# Altium footprint library Protel 99SE BANKS PCB.PCBLIB: 278 footprints (part 1 of 18)
Each footprint in its own frame and in the unit in brackets; x right, y up, seen from the top. Pads: shape width x height; smd on the part's side, far side on the other; paste and mask are expansions set on the pad; w line width, h text height; cw(c..) or ccw(c..) is an arc to the next point about the centre after c.
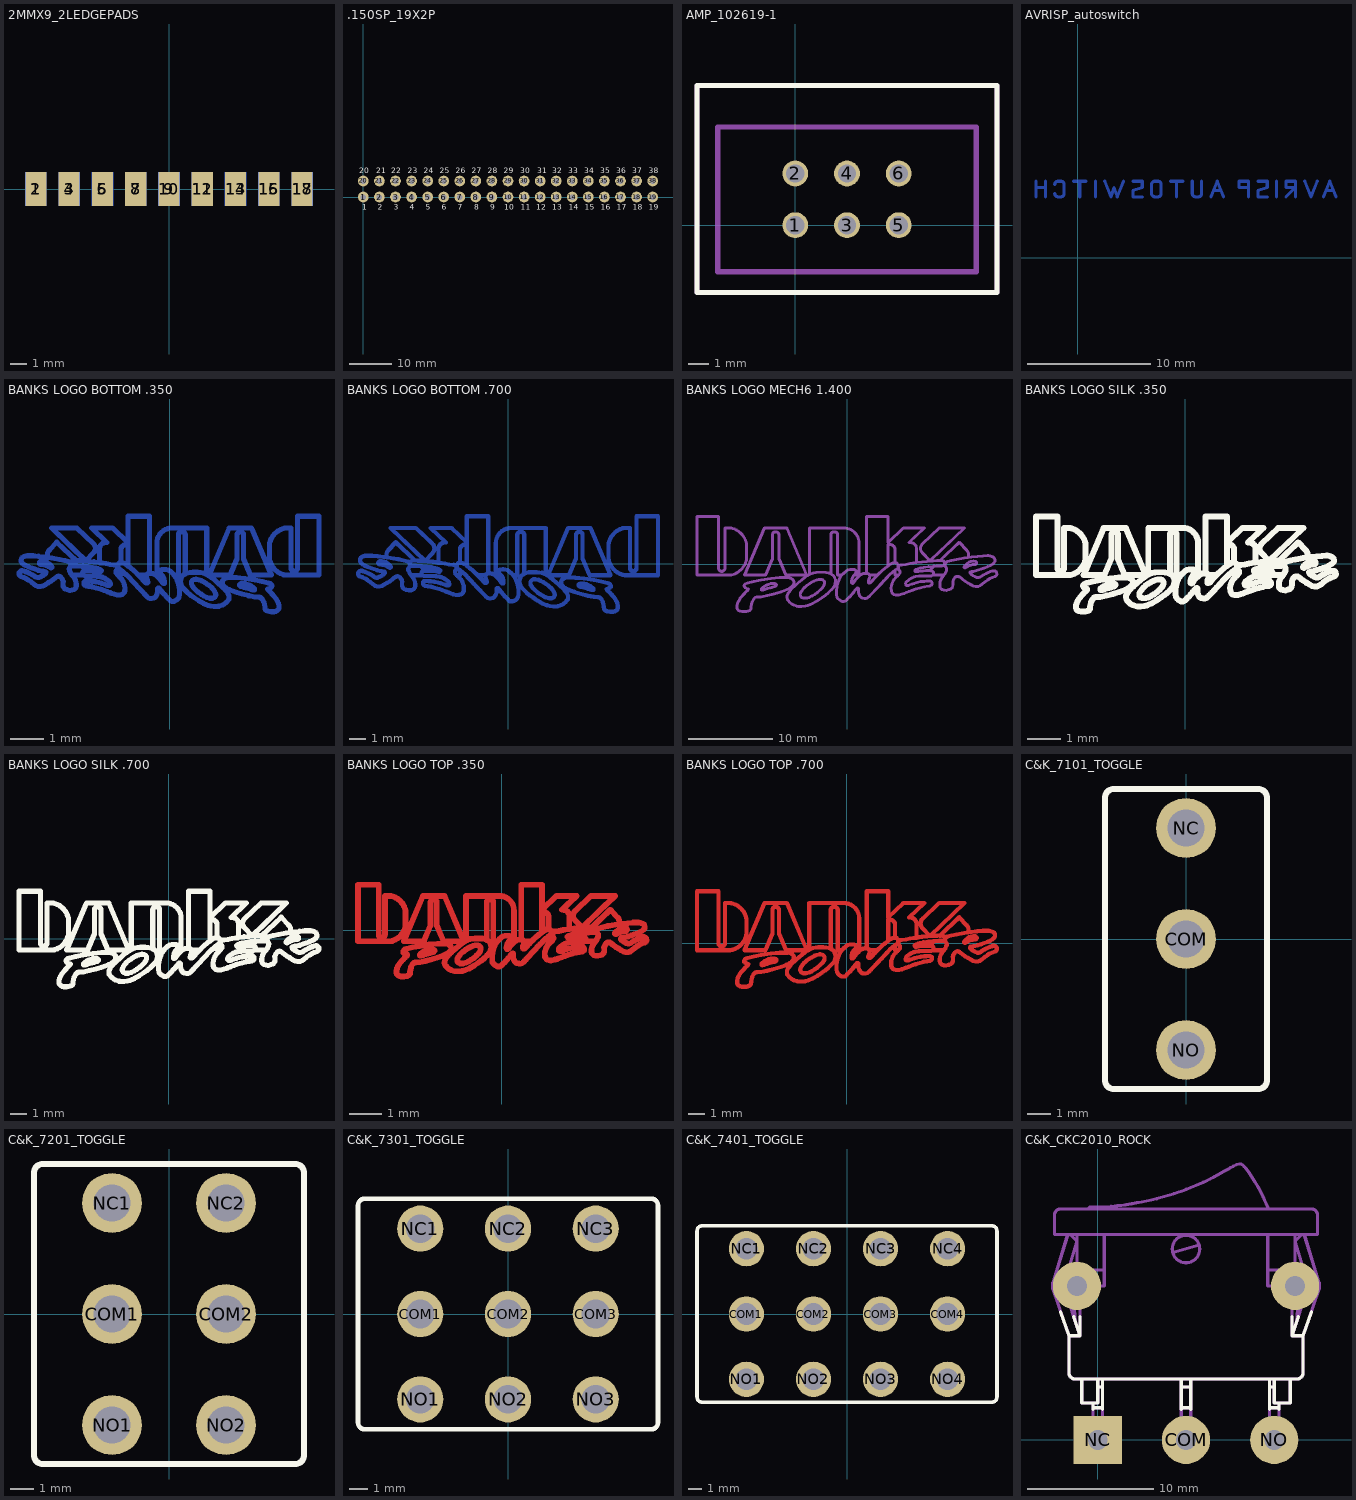
[diagram p0: the footprints below, top view; thin cyan lines are the x and y axes]

## 2MMX9_2LEDGEPADS [mil]
pads (18):
  rect 50x80 smd: 1(-314.96,0) 3(-236.22,0) 5(-157.48,0) 7(-78.74,0) 9(0,0) 11(78.74,0) 13(157.48,0) 15(236.22,0) 17(314.96,0)
  rect 50x80 smd far side: 2(-314.96,0) 4(-236.22,0) 6(-157.48,0) 8(-78.74,0) 10(0,0) 12(78.74,0) 14(157.48,0) 16(236.22,0) 18(314.96,0)

## .150SP_19X2P [mil]
pads (38):
  round 100 hole 52: 1(0,0) 2(150,0) 3(300,0) 4(450,0) 5(600,0) 6(750,0) 7(900,0) 8(1050,0) 9(1200,0) 10(1350,0) 11(1500,0) 12(1650,0) 13(1800,0) 14(1950,0) 15(2100,0) 16(2250,0) 17(2400,0) 18(2550,0) 19(2700,0) 20(0,150) 21(150,150) 22(300,150) 23(450,150) 24(600,150) 25(750,150) 26(900,150) 27(1050,150) 28(1200,150) 29(1350,150) 30(1500,150) 31(1650,150) 32(1800,150) 33(1950,150) 34(2100,150) 35(2250,150) 36(2400,150) 37(2550,150) 38(2700,150)
TopOverlay:
  text "31" at 1622,220 h50
  text "38" at 2662,220 h50
  text "37" at 2512,220 h50
  text "36" at 2362,220 h50
  text "35" at 2212,220 h50
  text "34" at 2062,220 h50
  text "33" at 1912,220 h50
  text "32" at 1762,220 h50
  text "30" at 1462,220 h50
  text "29" at 1312,220 h50
  text "28" at 1162,220 h50
  text "27" at 1012,220 h50
  text "26" at 862,220 h50
  text "25" at 712,220 h50
  text "24" at 562,220 h50
  text "23" at 412,220 h50
  text "22" at 262,220 h50
  text "21" at 122,220 h50
  text "20" at -38,220 h50
  text "14" at 1915,-120 h50
  text "15" at 2065,-120 h50
  text "16" at 2215,-120 h50
  text "17" at 2365,-120 h50
  text "18" at 2515,-120 h50
  text "19" at 2665,-120 h50
  text "13" at 1765,-120 h50
  text "12" at 1615,-120 h50
  text "11" at 1470,-120 h50
  text "10" at 1315,-120 h50
  text "9" at 1183,-120 h50
  text "8" at 1033,-120 h50
  text "7" at 883,-120 h50
  text "6" at 733,-120 h50
  text "5" at 583,-120 h50
  text "4" at 433,-120 h50
  text "3" at 283,-120 h50
  text "2" at 133,-120 h50
  text "1" at -12,-120 h50

## AMP_102619-1 [mil]
height 440.16
pads (6):
  round 50 hole 35: 1(0,0) 2(0,100) 3(100,0) 4(100,100) 5(200,0) 6(200,100)
TopOverlay:
  lines w10: -190,-130 390,-130 390,270 -190,270 -190,-130
Mechanical3:
  lines w10: -190,-130 -180,-130 380,-130 390,-130 390,100 390,270 380,270 200,270 0,270 -180,270 -190,270 -190,-130 ; -150,-90 -150,0 -150,190 350,190 350,0 350,-90 -150,-90

## AVRISP_autoswitch [mil]
BottomLayer:
  circle w10: c-62.91,194.33 r0
  circle w10: c-62.91,194.33 r0
  circle w10: c-42.91,224.33 r0
  circle w10: c237.09,214.33 r0
  circle w10: c247.09,194.33 r0
  circle w10: c247.09,194.33 r0
  circle w10: c267.09,224.33 r0
  circle w10: c397.09,244.33 r0
  lines w10: -132.91,194.33 -132.91,244.33 ; -132.91,224.33 -102.91,224.33 ; -102.91,194.33 -102.91,244.33 ; -72.91,204.33 ccw(c-62.91,204.33) -62.91,194.33 -52.91,194.33 ccw(c-52.91,204.33) -42.91,204.33 -42.91,224.33 -42.91,234.33 ccw(c-52.91,234.33) -52.91,244.33 -62.91,244.33 ccw(c-62.91,234.33) -72.91,234.33 ; -12.91,244.33 27.09,244.33 ; 7.09,194.33 7.09,244.33 ; 57.09,194.33 57.09,244.33 ; 87.09,244.33 107.09,194.33 117.09,224.33 127.09,194.33 147.09,244.33 ; 177.09,244.33 207.09,244.33 207.09,224.33 177.09,214.33 177.09,194.33 207.09,194.33 ; 297.09,244.33 337.09,244.33 ; 317.09,194.33 317.09,244.33 ; 367.09,244.33 367.09,204.33 ccw(c377.09,204.33) 377.09,194.33 387.09,194.33 ccw(c387.09,204.33) 397.09,204.33 397.09,244.33 ; 427.09,194.33 447.09,244.33 467.09,194.33 ; 437.09,214.33 457.09,214.33 ; 547.09,194.33 547.09,244.33 517.09,244.33 517.09,224.33 547.09,224.33 ; 577.09,244.33 607.09,244.33 607.09,224.33 577.09,214.33 577.09,194.33 607.09,194.33 ; 637.09,194.33 637.09,244.33 ; 667.09,194.33 697.09,224.33 667.09,224.33 667.09,244.33 697.09,244.33 697.09,194.33 ; 727.09,244.33 747.09,194.33 767.09,244.33 ; 787.09,194.33 807.09,244.33 827.09,194.33 ; 797.09,214.33 817.09,214.33 ; 237.09,204.33 ccw(c247.09,204.33) 247.09,194.33 257.09,194.33 ccw(c257.09,204.33) 267.09,204.33 267.09,224.33 267.09,234.33 ccw(c257.09,234.33) 257.09,244.33 247.09,244.33 ccw(c247.09,234.33) 237.09,234.33 237.09,214.33 237.09,204.33

## BANKS LOGO BOTTOM .350 [mil]
BottomLayer:
  lines w6: -142.4,7.51 cw(c-135.68,10.84) -141.11,16.01 -132.21,25.35 -109.75,3.94 ; -114.25,-13.14 -101.03,-13.14 ; -102.81,-2.67 -97.37,-7.85 ; -82.24,-9.09 -82.24,-6.37 ; -82.24,1.53 -82.24,17.65 cw(c-74.74,17.65) -74.74,25.15 -73.51,25.15 -91.32,42.12 -66.75,42.12 -48.94,25.15 -48.94,55.81 -23.74,55.81 -23.74,-11.05 ; -60.75,-13.14 -57.04,-13.14 -57.04,-7.44 ; -57.04,1.41 -57.04,16.67 cw(c-51.04,16.67) -51.04,22.67 -48.94,22.67 -48.94,-2.28 ; -36.46,-13.14 -26.94,-13.14 ; -9.12,-13.14 -15.01,-13.14 -15.01,24.11 cw(c2.99,24.11) 2.99,42.11 43.49,42.12 43.49,-12.4 ; 18.29,-11.57 18.29,33.87 ccw(c14.54,33.87) 14.54,37.62 13.94,37.62 ccw(c13.94,33.87) 10.19,33.87 10.19,-13.14 5.25,-13.14 ; 142.28,-13.14 136.4,-13.14 ; -26.94,-13.13 -26.21,-11.95 -24.98,-11.22 -23.35,-11 -21.61,-11 -19.7,-11.39 -17.56,-12.23 -15.99,-13.3 -14.53,-14.82 -12.39,-16.78 -10.93,-18.36 -9.81,-19.98 -8.96,-21.33 -8.29,-22.18 -7.28,-22.96 -6.04,-22.62 -5.88,-21.05 -5.99,-19.93 -6.44,-18.58 -6.66,-17.4 -7,-16.28 -7.62,-15.15 -8.4,-13.92 -9.81,-12.4 -10.76,-11.39 -11.38,-9.82 -11.27,-8.24 -10.37,-6.95 -9.02,-6.45 -6.66,-6.33 -4.08,-6.45 -1.6,-7.06 0.47,-8.47 3.06,-10.83 5.25,-13.13 ; -26.94,-13.13 -27.39,-14.54 -27.17,-16 -26.44,-17.85 -25.93,-19.09 -25.71,-20.49 -25.65,-21.5 -26.1,-22.23 -27.28,-22.34 -28.8,-21.56 -29.86,-20.21 -33.71,-16 -38.04,-11.5 -41.74,-8.02 -45.45,-4.93 -49.16,-2.12 -52.08,0.01 -54.27,1.2 -56.18,1.53 -58.09,1.25 -59.22,0.8 -60.45,-0.55 -60.73,-1.78 -60.73,-3.81 -59.83,-5.55 -57.76,-6.89 -54.05,-9.76 -50.62,-12.74 -47.19,-16.28 -43.99,-19.7 -40.73,-23.36 -36.72,-27.51 -33.63,-30.88 -31.27,-33.35 -29.47,-35.32 -27.78,-37.12 -26.16,-38.69 -24.69,-39.87 -22.84,-40.43 -21.16,-40.38 -18.63,-40.04 -17.34,-39.37 -16.16,-37.96 -15.37,-36.84 -14.7,-35.38 -14.02,-33.07 -13.96,-31.28 -13.96,-28.86 -13.68,-28.13 -13.01,-28.07 -12.17,-28.58 -10.48,-30.6 -8.63,-33.13 -6.16,-35.77 -3.85,-38.52 -1.72,-40.49 -0.26,-42.06 0.47,-42.91 1.43,-43.58 2.89,-43.86 4.86,-43.86 5.92,-43.52 8.23,-42.17 9.91,-40.66 11.09,-38.69 11.54,-36.11 11.48,-30.77 11.26,-27.29 10.36,-23.58 8.84,-18.8 7.5,-16.05 5.25,-13.13 ; 117.08,6.19 ccw(c127.57,6.19) 117.53,3.15 ccw(c140.23,10.02) 133.36,-12.69 ccw(c136.4,-2.64) 136.4,-13.14 ; 117.08,6.19 117.08,22.79 ; 117.08,6.19 117.08,22.79 ; 117.08,22.79 cw(c127.57,22.79) 117.53,25.83 cw(c140.23,18.96) 133.36,41.67 cw(c136.4,31.62) 136.4,42.11 142.28,42.12 142.28,-4.89 ccw(c146.03,-4.89) 146.03,-8.64 ; 136.4,-13.14 175.02,-13.14 175.02,55.81 149.82,55.81 149.82,-4.89 cw(c146.07,-4.89) 146.07,-8.64 ; 146.03,-8.64 146.07,-8.64 ; -176.49,-12.12 -175.53,-13.86 -174.18,-14.76 -171.15,-15.71 -168.23,-17.12 -165.31,-18.86 -161.96,-21.33 -158.65,-24.03 -156.51,-25.49 -154.32,-26.39 -151.18,-26.5 -148.59,-25.88 -145.56,-24.14 -142.19,-22.12 -138.93,-20.15 -136.12,-18.13 -134.13,-16.39 -132.61,-15.32 -131.66,-14.7 -130.31,-14.48 -128.9,-14.76 -127.84,-15.27 -127.16,-15.83 -126.32,-16.95 -125.36,-18.69 -124.69,-20.77 -124.8,-22.68 -124.92,-24.37 -124.63,-26.28 -123.96,-27.79 -122.44,-29.31 -120.31,-30.15 -117.05,-30.94 -114.24,-30.77 -112.22,-30.1 -110.76,-29.03 -109.75,-27.74 -109.47,-25.88 -109.47,-23.3 -109.72,-21.5 -110.39,-19.25 -111.35,-17.12 -112.19,-15.6 -113.54,-13.97 -114.78,-12.51 -115.79,-11.05 -116.8,-8.97 -117.53,-7.34 -117.58,-6.05 -117.25,-4.65 -116.67,-3.84 -116.26,-3.32 -115.87,-2.65 -115.53,-1.75 -115.48,-0.79 -115.7,0.22 -116.15,1.06 -116.83,1.9 -117.67,2.47 -118.32,2.71 -122.92,3.98 -129.1,5.39 -138.09,6.9 -146.51,8.08 -153.43,8.93 -160.11,9.54 -165.36,9.62 -166.57,9.62 -168.59,9.45 -170.17,8.89 -171.63,8.27 -173.14,7.15 -173.71,6.08 -174.1,4.34 -173.93,2.71 -172.58,0.8 -171.15,-0.32 -168.45,-2.06 -165.53,-3.3 -161.54,-4.76 -157.89,-6.05 -154.07,-7.34 -150.7,-8.19 -148.68,-8.64 -146.6,-8.86 -145.53,-9.25 -145.03,-9.76 -144.91,-10.15 -145.25,-10.71 -145.76,-11.5 -146.88,-12.51 -148.57,-13.75 -150.42,-14.65 -151.49,-15.15 -152.84,-15.71 -153.73,-16.05 -155.03,-16.05 -156.77,-15.49 -158.28,-14.42 -160.19,-13.13 -161.99,-12.18 -163.9,-11.22 -166.37,-10.04 -168.56,-9.14 -170.76,-8.47 -171.77,-8.07 -173.23,-8.02 -174.63,-8.47 -175.64,-9.37 -176.15,-10.27 -176.49,-12.12 ; -152.61,1.2 -152.27,2.26 -151.15,3.1 -148.68,3.16 -145.93,2.82 -143.73,1.98 -141.82,0.58 -140.14,-0.83 -138.68,-2.29 -137.95,-3.47 -138,-4.03 -139.01,-4.65 -139.86,-4.14 -140.93,-3.52 -142.27,-2.79 -144.52,-1.78 -146.26,-1.11 -147.89,-0.83 -149.63,-0.71 -151.04,-0.55 -151.71,-0.21 -152.22,0.24 -152.61,1.2 ; -138.28,42.12 -97.9,3.63 -89,12.97 ccw(c-94.43,18.14) -89.25,23.57 -108.71,42.12 -138.28,42.12 ; -115.2,-0.23 -115.2,0.84 -114.97,1.85 -114.52,2.8 -114.13,3.48 -112.62,3.89 -112.47,3.89 -109.33,3.95 -106.24,3.83 -101.35,3.67 -94.44,2.99 -88.48,2.49 -81.52,1.42 -74.5,0.52 -69.78,-0.6 -64.89,-1.17 -64.33,-1.1 -63.46,-1.13 -62.67,-1.35 -61.83,-2.03 -61.38,-2.7 -60.98,-3.71 -60.76,-4.78 -60.87,-5.62 -61.1,-6.52 -61.37,-6.92 -61.6,-7.01 -62.73,-8.13 -62.95,-9.37 -62.84,-10.49 -61.15,-12.74 -59.47,-14.42 -57.95,-16.05 -55.87,-18.19 -54.41,-20.6 -53.51,-23.13 -52.67,-25.55 -52.5,-27.85 -52.62,-31.89 -53.23,-33.3 -54.24,-34.76 -55.42,-35.6 -57.78,-36.22 -59.69,-36.44 -61.66,-36.39 -65.25,-35.38 -67.67,-34.65 -69.64,-33.75 -72.95,-32.57 -76.6,-31.16 -81.15,-29.48 -86.1,-28.07 -90.76,-26.78 -94.75,-26.16 -97.95,-25.66 -99.8,-24.76 -100.42,-23.58 -100.42,-22.18 -99.97,-21.16 -99.3,-20.43 -98.23,-19.98 -96.38,-19.93 -93.68,-20.15 -91.55,-20.32 -87,-20.83 -82.84,-21.73 -79.64,-22.68 -77.11,-23.47 -74.24,-24.48 -72.78,-25.1 -71.43,-25.32 -70.42,-25.15 -69.81,-24.7 -69.58,-24.2 -69.52,-23.19 -69.75,-21.89 -70.7,-20.6 -72.05,-19.48 -73.79,-18.19 -75.2,-17.29 -76.77,-16.39 -78.74,-15.55 -80.82,-14.98 -85.03,-14.42 -89.36,-14.2 -92.72,-14.09 -97.39,-14.09 -99.13,-14.03 -101.04,-13.13 -101.99,-12.51 -102.22,-11.33 -101.99,-10.1 -101.49,-9.2 -100.87,-8.64 -99.69,-8.13 -97.72,-7.85 -93.12,-7.91 -89.52,-8.07 -86.66,-8.24 -84.58,-8.64 -82.56,-9.09 -81.1,-9.09 -80.42,-8.69 -80.14,-7.74 -80.48,-7.29 -81.66,-6.61 -83.85,-5.71 -86.27,-4.99 -90.39,-3.97 -96.01,-3.3 -101.69,-2.79 -105.34,-2.4 -108.88,-2.18 -111.26,-2.18 -112.16,-2.31 -113.45,-2.08 -114.35,-1.8 -114.92,-1.13 -115.2,-0.23 ; 12.78,-20.48 13.01,-18.23 13.74,-15.87 15.14,-13.79 17.28,-12.05 20.48,-10.53 23.79,-9.86 27.22,-9.75 32.56,-9.75 35.87,-9.97 39.02,-10.48 42.05,-11.66 45.24,-13.31 48.61,-15.79 52.04,-18.43 56.53,-22.36 60.97,-26.18 63.61,-28.65 65.8,-31.01 67.09,-32.75 68.44,-34.6 69.45,-37.19 69.62,-39.32 69.23,-41.57 67.77,-43.54 66.25,-45.22 64.28,-46.8 61.81,-48.2 57.6,-49.6 55.89,-49.79 52.35,-49.79 48.03,-49.39 45.13,-48.55 39.52,-46.27 33.79,-42.96 28.63,-39.39 24.53,-36.64 20.82,-33.55 17.9,-30.57 15.09,-27.55 13.74,-25.31 13.06,-23.06 12.78,-20.48 ; 25.61,-23.07 25.73,-21.16 26.34,-19.87 27.35,-18.8 29.04,-18.07 30.78,-18.02 32.47,-18.13 34.88,-18.69 37.35,-19.76 40.84,-21.61 43.37,-23.19 46.68,-25.49 49.32,-27.74 51.01,-29.82 52.52,-32.01 53.7,-34.14 54.04,-36.11 53.7,-37.79 52.75,-39.08 50.44,-40.15 47.52,-40.21 45.95,-39.98 43.42,-39.2 40.39,-37.68 37.02,-35.6 33.87,-33.47 30.73,-30.6 28.31,-28.24 27.02,-26.56 26.01,-24.82 25.61,-23.07 ; 46.43,-13.14 69.75,42.12 95.89,42.12 119.22,-13.14 94.79,-13.14 86.65,6.16 86.65,33.87 ccw(c82.9,33.87) 82.9,37.62 82.75,37.62 ccw(c82.75,33.87) 79,33.87 79,6.16 70.85,-13.14 46.43,-13.14 ; 61.59,-22.95 61.59,-20.93 62.04,-19.24 63.5,-17.89 64.84,-16.88 66.31,-16.32 68.89,-15.98 78.22,-16.09 88.22,-16.99 100.01,-18.9 108.55,-20.48 115.63,-22.27 117.99,-23.29 119.45,-24.41 119.9,-25.53 119.56,-26.99 118.89,-27.55 117.43,-28.45 114.96,-29.35 115.18,-30.59 116.08,-31.26 117.88,-32.84 120.24,-35.53 123.05,-38.68 124.73,-40.81 126.19,-43.4 127.43,-46.09 127.99,-49.13 127.99,-51.6 127.43,-53.28 126.53,-54.41 124.62,-55.42 122.26,-55.98 119.45,-55.98 116.98,-55.87 114.96,-55.31 112.82,-54.29 111.81,-52.72 111.58,-50.14 111.14,-47.78 110.35,-44.41 108.44,-41.04 106.98,-39.46 105.29,-39.01 99.79,-38.56 92.71,-37.22 84.96,-35.19 76.98,-32.72 70.13,-30.25 66.53,-28.34 64.06,-26.66 62.49,-24.86 61.59,-22.95 ; 81.98,-24.75 82.04,-24.07 82.51,-23.43 83.92,-23.03 86.14,-22.92 88.61,-23.2 91.25,-23.9 93.1,-24.72 95.86,-26.21 97.99,-27.86 99.2,-28.99 99.24,-29.11 99.49,-29.61 99.54,-30.17 99.37,-30.51 98.59,-30.62 97.8,-30.45 97.01,-30.29 96.12,-30.08 95.46,-29.77 92.62,-28.93 89.7,-27.95 87.43,-27.39 85.94,-27.05 84.14,-26.63 83.08,-26.15 82.18,-25.42 81.98,-24.75

## BANKS LOGO BOTTOM .700 [mil]
BottomLayer:
  lines w10: -283.68,15.06 cw(c-270.24,21.71) -281.1,32.06 -263.3,50.74 -218.37,7.92 ; -227.37,-26.23 -200.93,-26.23 ; -204.49,-5.3 -193.62,-15.67 ; -163.36,-18.13 -163.36,-12.71 ; -163.36,3.1 -163.36,35.34 cw(c-148.36,35.34) -148.36,50.34 -145.9,50.34 -181.51,84.27 -132.37,84.27 -96.76,50.34 -96.76,111.65 -46.36,111.65 -46.36,-22.06 ; -120.38,-26.23 -112.96,-26.23 -112.96,-14.85 ; -112.96,2.85 -112.96,33.38 cw(c-100.96,33.38) -100.96,45.38 -96.76,45.38 -96.76,-4.53 ; -71.8,-26.23 -52.76,-26.23 ; -17.13,-26.23 -28.9,-26.23 -28.9,48.27 cw(c7.1,48.27) 7.1,84.27 88.1,84.27 88.1,-24.76 ; 11.63,-26.23 21.5,-26.23 21.5,67.77 cw(c29,67.77) 29,75.27 30.2,75.27 cw(c30.2,67.77) 37.7,67.77 37.7,-23.1 ; 236.17,51.7 cw(c281.58,37.97) 267.84,83.37 cw(c273.93,63.27) 273.92,84.27 285.68,84.27 285.68,-9.73 ccw(c293.18,-9.73) 293.18,-17.23 293.26,-17.23 ccw(c293.26,-9.73) 300.76,-9.73 300.76,111.65 351.16,111.65 351.16,-26.23 273.93,-26.23 ; 236.18,51.7 ccw(c256.28,45.63) 235.28,45.62 ; 285.68,-26.23 273.93,-26.23 ; 235.28,12.42 ccw(c256.27,12.41) 236.17,6.34 ccw(c281.58,20.07) 267.84,-25.33 ccw(c273.93,-5.23) 273.92,-26.23 ; 235.28,12.42 235.28,45.62 ; 235.28,12.42 235.28,45.62 ; -351.85,-24.2 -351.17,-20.49 -350.16,-18.69 -348.14,-16.89 -345.33,-16 -342.41,-16.11 -340.39,-16.89 -336.01,-18.24 -331.62,-20.04 -326.68,-22.4 -322.86,-24.31 -319.26,-26.22 -315.44,-28.8 -312.41,-30.94 -308.93,-32.06 -306.34,-32.06 -304.55,-31.39 -301.85,-30.27 -299.71,-29.25 -296.01,-27.46 -292.64,-24.98 -290.39,-22.96 -289.38,-21.39 -288.7,-20.27 -288.93,-19.48 -289.94,-18.47 -292.07,-17.68 -296.23,-17.23 -300.28,-16.33 -307.02,-14.65 -314.66,-12.06 -321.96,-9.48 -329.94,-6.56 -335.78,-4.09 -341.17,-0.6 -344.04,1.64 -346.74,5.46 -347.07,8.72 -346.29,12.21 -345.16,14.34 -342.13,16.59 -339.21,17.82 -336.06,18.95 -332.02,19.28 -329.59,19.28 -319.1,19.13 -305.73,17.89 -291.91,16.21 -275.05,13.85 -257.08,10.81 -244.72,8.01 -235.52,5.46 -234.21,4.97 -232.53,3.85 -231.18,2.16 -230.28,0.48 -229.83,-1.54 -229.94,-3.45 -230.62,-5.25 -231.4,-6.6 -232.21,-7.63 -233.37,-9.25 -234.04,-12.06 -233.93,-14.65 -232.47,-17.91 -230.45,-22.06 -228.43,-24.98 -225.95,-27.91 -223.26,-31.16 -221.57,-34.2 -219.66,-38.47 -218.31,-42.96 -217.81,-46.56 -217.81,-51.72 -218.37,-55.43 -220.39,-58.02 -223.31,-60.15 -227.36,-61.5 -232.98,-61.84 -239.49,-60.26 -243.76,-58.58 -246.8,-55.55 -248.14,-52.51 -248.71,-48.69 -248.48,-45.32 -248.26,-41.5 -249.6,-37.34 -251.51,-33.86 -253.2,-31.61 -254.55,-30.49 -256.68,-29.48 -259.49,-28.92 -262.19,-29.37 -264.1,-30.6 -267.13,-32.74 -271.12,-36.22 -276.74,-40.26 -283.25,-44.2 -290,-48.24 -296.06,-51.72 -301.23,-52.96 -307.52,-52.74 -311.91,-50.94 -316.18,-48.02 -322.8,-42.62 -329.49,-37.68 -335.33,-34.2 -341.17,-31.39 -347.24,-29.48 -349.94,-27.68 -351.85,-24.2 ; -304.1,2.43 -303.31,0.52 -302.3,-0.38 -300.95,-1.05 -298.14,-1.39 -294.66,-1.61 -291.4,-2.18 -287.92,-3.52 -283.42,-5.55 -280.73,-7.01 -278.59,-8.24 -276.91,-9.25 -274.88,-8.02 -274.77,-6.89 -276.23,-4.54 -279.15,-1.61 -282.52,1.2 -286.35,4 -290.73,5.69 -296.23,6.36 -301.18,6.25 -303.42,4.57 -304.1,2.43 ; -275.44,84.27 -216.3,84.27 -177.38,47.19 cw(c-187.73,36.33) -176.87,25.98 -194.67,7.3 -275.44,84.27 ; -229.27,-0.42 -228.71,-2.22 -227.58,-3.57 -225.79,-4.13 -223.2,-4.58 -221.4,-4.31 -216.63,-4.31 -209.55,-4.76 -202.25,-5.55 -190.9,-6.56 -179.66,-7.91 -171.41,-9.93 -166.57,-11.39 -162.19,-13.19 -159.83,-14.54 -159.16,-15.43 -159.72,-17.34 -161.07,-18.13 -163.99,-18.13 -168.03,-17.23 -172.19,-16.45 -177.92,-16.11 -185.11,-15.77 -194.33,-15.66 -198.26,-16.22 -200.62,-17.23 -201.85,-18.36 -202.87,-20.15 -203.31,-22.62 -202.87,-24.98 -200.96,-26.22 -197.13,-28.02 -193.65,-28.13 -184.33,-28.13 -177.59,-28.36 -168.93,-28.8 -160.51,-29.93 -156.35,-31.05 -152.42,-32.74 -149.27,-34.53 -146.46,-36.33 -142.98,-38.92 -140.28,-41.16 -138.37,-43.75 -137.92,-46.33 -138.04,-48.35 -138.49,-49.37 -139.72,-50.26 -141.74,-50.6 -144.44,-50.15 -147.36,-48.92 -153.09,-46.89 -158.15,-45.32 -164.55,-43.41 -172.87,-41.61 -181.97,-40.6 -186.24,-40.26 -191.63,-39.81 -195.34,-39.93 -197.47,-40.83 -198.82,-42.29 -199.72,-44.31 -199.72,-47.12 -198.48,-49.48 -194.78,-51.27 -188.37,-52.29 -180.39,-53.52 -171.07,-56.11 -161.18,-58.91 -152.08,-62.29 -144.78,-65.09 -138.15,-67.45 -134.22,-69.25 -129.38,-70.71 -122.19,-72.73 -118.26,-72.85 -114.44,-72.4 -109.72,-71.16 -107.36,-69.48 -105.34,-66.56 -104.11,-63.75 -103.88,-55.66 -104.22,-51.05 -105.9,-46.22 -107.7,-41.16 -110.62,-36.33 -114.78,-32.06 -117.81,-28.8 -121.18,-25.43 -124.55,-20.94 -124.78,-18.69 -124.33,-16.22 -122.08,-13.97 -121.62,-13.81 -121.07,-13 -120.62,-11.21 -120.4,-9.52 -120.85,-7.39 -121.63,-5.36 -122.53,-4.02 -124.22,-2.67 -125.79,-2.22 -127.53,-2.16 -128.66,-2.29 -138.43,-1.17 -147.87,1.08 -161.91,2.88 -175.84,5.01 -187.75,6.03 -201.57,7.37 -211.35,7.71 -217.53,7.94 -223.82,7.82 -224.12,7.82 -227.13,7 -227.92,5.65 -228.82,3.74 -229.27,1.72 -229.27,-0.42 ; -120.34,-7.57 -118.54,-11.05 -114.39,-13.75 -106.97,-19.48 -100.12,-25.43 -93.26,-32.51 -86.86,-39.37 -80.34,-46.67 -72.31,-54.98 -66.13,-61.72 -61.41,-66.67 -57.81,-70.6 -54.45,-74.19 -51.19,-77.34 -48.27,-79.7 -44.56,-80.82 -41.19,-80.71 -36.13,-80.04 -33.55,-78.69 -31.19,-75.88 -29.61,-73.63 -28.27,-70.71 -26.92,-66.11 -26.8,-62.51 -26.8,-57.68 -26.24,-56.22 -24.89,-56.11 -23.21,-57.12 -19.84,-61.16 -16.13,-66.22 -11.19,-71.5 -6.58,-77 -2.31,-80.94 0.61,-84.08 2.07,-85.77 3.98,-87.12 6.9,-87.68 10.83,-87.68 12.97,-87 17.57,-84.31 20.95,-81.27 23.3,-77.34 24.2,-72.17 24.09,-61.5 23.64,-54.53 21.84,-47.12 18.81,-37.57 16.11,-32.06 11.62,-26.22 7.24,-21.61 2.07,-16.89 -2.09,-14.09 -7.03,-12.85 -12.2,-12.62 -16.92,-12.85 -19.61,-13.86 -21.41,-16.45 -21.64,-19.59 -20.4,-22.74 -18.49,-24.76 -15.68,-27.79 -14.11,-30.27 -12.87,-32.51 -12.2,-34.76 -11.75,-37.12 -10.85,-39.81 -10.63,-42.06 -10.96,-45.21 -13.44,-45.88 -15.46,-44.31 -16.81,-42.62 -18.49,-39.93 -20.74,-36.67 -23.66,-33.52 -27.93,-29.59 -30.85,-26.56 -34,-24.42 -38.27,-22.74 -42.09,-21.95 -45.57,-21.95 -48.83,-22.4 -51.3,-23.86 -52.76,-26.22 -53.66,-29.03 -53.21,-31.95 -51.75,-35.66 -50.74,-38.13 -50.29,-40.94 -50.17,-42.96 -51.07,-44.42 -53.43,-44.65 -56.47,-43.07 -58.6,-40.38 -66.3,-31.95 -74.95,-22.96 -82.36,-16 -89.78,-9.82 -97.2,-4.2 -103.04,0.07 -107.42,2.43 -111.24,3.1 -115.06,2.54 -117.31,1.64 -119.78,-1.05 -120.34,-3.52 -120.34,-7.57 ; 26.69,-40.91 27.25,-46.08 28.6,-50.57 31.3,-55.07 36.93,-61.11 42.77,-67.06 50.19,-73.24 58.39,-78.75 68.7,-85.88 80.16,-92.51 91.39,-97.06 97.18,-98.75 105.83,-99.53 112.91,-99.53 116.32,-99.17 124.75,-96.36 129.69,-93.55 133.62,-90.4 136.66,-87.03 139.58,-83.1 140.37,-78.61 140.03,-74.34 138,-69.17 135.31,-65.46 132.72,-61.98 128.34,-57.26 123.06,-52.31 114.19,-44.67 105.2,-36.81 98.34,-31.53 91.6,-26.59 85.23,-23.27 79.16,-20.91 72.87,-19.9 66.24,-19.45 55.56,-19.45 48.71,-19.68 42.08,-21.02 35.68,-24.06 31.41,-27.54 28.6,-31.7 27.14,-36.42 26.69,-40.91 ; 52.35,-46.11 53.13,-49.59 55.16,-53.07 57.74,-56.44 62.57,-61.16 68.86,-66.89 75.16,-71.16 81.9,-75.32 87.97,-78.35 93.02,-79.93 96.17,-80.38 102.01,-80.26 106.62,-78.13 108.53,-75.54 109.2,-72.17 108.53,-68.24 106.17,-63.97 103.13,-59.59 99.76,-55.43 94.48,-50.94 87.85,-46.33 82.8,-43.19 75.83,-39.48 70.89,-37.34 66.06,-36.22 62.69,-35.99 59.2,-36.11 55.83,-37.57 53.81,-39.7 52.57,-42.29 52.35,-46.11 ; 93.98,-26.23 142.83,-26.23 159.12,12.36 159.12,67.77 cw(c166.62,67.77) 166.62,75.27 166.92,75.27 cw(c166.92,67.77) 174.42,67.77 174.42,12.36 190.71,-26.23 239.56,-26.23 192.9,84.27 140.63,84.27 93.98,-26.23 ; 124.3,-45.85 126.1,-49.67 129.24,-53.27 134.19,-56.64 141.38,-60.46 155.08,-65.4 171.04,-70.35 186.54,-74.39 200.7,-77.09 211.71,-77.99 215.08,-78.89 218,-82.03 221.82,-88.77 223.4,-95.52 224.29,-100.23 224.74,-105.4 226.76,-108.55 231.03,-110.57 235.08,-111.69 240.02,-111.92 245.64,-111.92 250.36,-110.8 254.18,-108.77 255.98,-106.53 257.1,-103.16 257.1,-98.21 255.98,-92.14 253.51,-86.75 250.59,-81.58 247.21,-77.31 241.6,-71.02 236.88,-65.63 233.28,-62.48 231.48,-61.13 231.03,-58.66 235.98,-56.87 238.9,-55.07 240.25,-53.94 240.92,-51.02 240.02,-48.77 237.1,-46.53 232.38,-44.51 218.23,-40.91 201.15,-37.76 177.55,-33.94 157.56,-32.15 138.9,-31.92 133.74,-32.6 130.81,-33.72 128.12,-35.74 125.2,-38.44 124.3,-41.81 124.3,-45.85 ; 165.08,-49.45 165.48,-50.8 167.27,-52.26 169.41,-53.21 173,-54.06 175.98,-54.73 180.53,-55.85 186.37,-57.82 192.05,-59.51 193.36,-60.12 195.15,-60.53 196.72,-60.87 198.3,-61.2 199.87,-60.98 200.21,-60.3 200.09,-59.18 199.61,-58.19 199.52,-57.93 197.1,-55.69 192.83,-52.37 187.33,-49.39 183.62,-47.76 178.34,-46.36 173.4,-45.8 168.96,-46.02 166.15,-46.81 165.19,-48.1 165.08,-49.45

## BANKS LOGO MECH6 1.400 [mil]
Mechanical6:
  drawing of 574 lines, arcs and shapes, not listed

## BANKS LOGO SILK .350 [mil]
TopOverlay:
  drawing of 574 lines, arcs and shapes, not listed

## BANKS LOGO SILK .700 [mil]
TopOverlay:
  drawing of 574 lines, arcs and shapes, not listed

## BANKS LOGO TOP .350 [mil]
TopLayer:
  lines w7: -142.28,-13.14 -136.4,-13.14 ; -43.49,-12.4 -43.49,42.12 -2.99,42.12 cw(c-2.99,24.11) 15.01,24.11 15.01,-13.14 9.12,-13.14 ; -18.29,-11.57 -18.29,33.87 cw(c-14.54,33.87) -14.54,37.62 -13.94,37.62 cw(c-13.94,33.87) -10.19,33.87 -10.19,-13.14 -5.25,-13.14 ; 23.74,-11.05 23.74,55.81 48.94,55.81 48.94,25.15 66.75,42.12 91.32,42.12 73.51,25.15 74.74,25.15 cw(c74.74,17.65) 82.24,17.65 82.24,1.53 ; 36.46,-13.14 26.94,-13.14 ; 48.94,-2.28 48.94,22.67 51.04,22.67 cw(c51.04,16.67) 57.04,16.67 57.04,1.41 ; 57.04,-7.44 57.04,-13.14 60.75,-13.14 ; 82.24,-9.09 82.24,-6.37 ; 97.37,-7.85 102.81,-2.67 ; 101.03,-13.14 114.25,-13.14 ; 109.75,3.94 132.21,25.35 141.11,16.01 cw(c135.68,10.84) 142.4,7.51 ; -146.03,-8.64 ccw(c-146.03,-4.89) -142.28,-4.89 -142.28,42.12 -136.4,42.12 cw(c-136.4,31.62) -133.36,41.66 cw(c-140.23,18.96) -117.53,25.83 cw(c-127.57,22.79) -117.08,22.79 ; -146.07,-8.64 cw(c-146.07,-4.89) -149.82,-4.89 -149.82,55.81 -175.02,55.81 -175.02,-13.14 -136.4,-13.14 ; -146.07,-8.64 -146.03,-8.64 ; -136.4,-13.14 ccw(c-136.4,-2.64) -133.36,-12.69 ccw(c-140.23,10.02) -117.53,3.15 ccw(c-127.57,6.19) -117.08,6.19 ; -117.08,6.19 -117.08,22.79 ; -117.08,6.19 -117.08,22.79 ; -5.25,-13.13 -3.06,-10.83 -0.47,-8.47 1.6,-7.06 4.08,-6.45 6.66,-6.33 9.02,-6.45 10.37,-6.95 11.27,-8.24 11.38,-9.82 10.76,-11.39 9.81,-12.4 8.4,-13.92 7.62,-15.15 7,-16.28 6.66,-17.4 6.44,-18.58 5.99,-19.93 5.88,-21.05 6.04,-22.62 7.28,-22.96 8.29,-22.18 8.96,-21.33 9.81,-19.98 10.93,-18.36 12.39,-16.78 14.53,-14.82 15.99,-13.3 17.56,-12.23 19.7,-11.39 21.61,-11 23.35,-11 24.98,-11.22 26.21,-11.95 26.94,-13.13 ; -5.25,-13.13 -7.5,-16.05 -8.84,-18.8 -10.36,-23.58 -11.26,-27.29 -11.48,-30.77 -11.54,-36.11 -11.09,-38.69 -9.91,-40.66 -8.23,-42.17 -5.92,-43.52 -4.86,-43.86 -2.89,-43.86 -1.43,-43.58 -0.47,-42.91 0.26,-42.06 1.72,-40.49 3.85,-38.52 6.16,-35.77 8.63,-33.13 10.48,-30.6 12.17,-28.58 13.01,-28.07 13.68,-28.13 13.96,-28.86 13.96,-31.28 14.02,-33.07 14.7,-35.38 15.37,-36.84 16.16,-37.96 17.34,-39.37 18.63,-40.04 21.16,-40.38 22.84,-40.43 24.69,-39.87 26.16,-38.69 27.78,-37.12 29.47,-35.32 31.27,-33.35 33.63,-30.88 36.72,-27.51 40.73,-23.36 43.99,-19.7 47.19,-16.28 50.62,-12.74 54.05,-9.76 57.76,-6.89 59.83,-5.55 60.73,-3.81 60.73,-1.78 60.45,-0.55 59.22,0.8 58.09,1.25 56.18,1.53 54.27,1.2 52.08,0.01 49.16,-2.12 45.45,-4.93 41.74,-8.02 38.04,-11.5 33.71,-16 29.86,-20.21 28.8,-21.56 27.28,-22.34 26.1,-22.23 25.65,-21.5 25.71,-20.49 25.93,-19.09 26.44,-17.85 27.17,-16 27.39,-14.54 26.94,-13.13 ; -127.99,-51.6 -127.99,-49.13 -127.43,-46.09 -126.19,-43.4 -124.73,-40.81 -123.05,-38.68 -120.24,-35.53 -117.88,-32.84 -116.08,-31.26 -115.18,-30.59 -114.96,-29.35 -117.43,-28.45 -118.89,-27.55 -119.56,-26.99 -119.9,-25.53 -119.45,-24.41 -117.99,-23.29 -115.63,-22.27 -108.55,-20.48 -100.01,-18.9 -88.22,-16.99 -78.22,-16.09 -68.89,-15.98 -66.31,-16.32 -64.84,-16.88 -63.5,-17.89 -62.04,-19.24 -61.59,-20.93 -61.59,-22.95 -62.49,-24.86 -64.06,-26.66 -66.53,-28.34 -70.13,-30.25 -76.98,-32.72 -84.96,-35.19 -92.71,-37.22 -99.79,-38.56 -105.29,-39.01 -106.98,-39.46 -108.44,-41.04 -110.35,-44.41 -111.14,-47.78 -111.58,-50.14 -111.81,-52.72 -112.82,-54.29 -114.96,-55.31 -116.98,-55.87 -119.45,-55.98 -122.26,-55.98 -124.62,-55.42 -126.53,-54.41 -127.43,-53.28 -127.99,-51.6 ; -119.22,-13.14 -94.79,-13.14 -86.65,6.16 -86.65,33.87 cw(c-82.9,33.87) -82.9,37.62 -82.75,37.62 cw(c-82.75,33.87) -79,33.87 -79,6.16 -70.85,-13.14 -46.43,-13.14 -69.75,42.12 -95.89,42.12 -119.22,-13.14 ; -99.54,-30.17 -99.37,-30.51 -98.59,-30.62 -97.8,-30.45 -97.01,-30.29 -96.12,-30.08 -95.46,-29.77 -92.62,-28.93 -89.7,-27.95 -87.43,-27.39 -85.94,-27.05 -84.14,-26.63 -83.08,-26.15 -82.18,-25.42 -81.98,-24.75 -82.04,-24.07 -82.51,-23.43 -83.92,-23.03 -86.14,-22.92 -88.61,-23.2 -91.25,-23.9 -93.1,-24.72 -95.86,-26.21 -97.99,-27.86 -99.2,-28.99 -99.24,-29.11 -99.49,-29.61 -99.54,-30.17 ; -69.62,-39.32 -69.45,-37.19 -68.44,-34.6 -67.09,-32.75 -65.8,-31.01 -63.61,-28.65 -60.97,-26.18 -56.53,-22.36 -52.04,-18.43 -48.61,-15.79 -45.24,-13.31 -42.05,-11.66 -39.02,-10.48 -35.87,-9.97 -32.56,-9.75 -27.22,-9.75 -23.79,-9.86 -20.48,-10.53 -17.28,-12.05 -15.14,-13.79 -13.74,-15.87 -13.01,-18.23 -12.78,-20.48 -13.06,-23.06 -13.74,-25.31 -15.09,-27.55 -17.9,-30.57 -20.82,-33.55 -24.53,-36.64 -28.63,-39.39 -33.79,-42.96 -39.52,-46.27 -45.13,-48.55 -48.03,-49.39 -52.35,-49.79 -55.89,-49.79 -57.6,-49.6 -61.81,-48.2 -64.28,-46.8 -66.25,-45.22 -67.77,-43.54 -69.23,-41.57 -69.62,-39.32 ; -54.04,-36.11 -53.7,-34.14 -52.52,-32.01 -51.01,-29.82 -49.32,-27.74 -46.68,-25.49 -43.37,-23.19 -40.84,-21.61 -37.35,-19.76 -34.88,-18.69 -32.47,-18.13 -30.78,-18.02 -29.04,-18.07 -27.35,-18.8 -26.34,-19.87 -25.73,-21.16 -25.61,-23.07 -26.01,-24.82 -27.02,-26.56 -28.31,-28.24 -30.73,-30.6 -33.87,-33.47 -37.02,-35.6 -40.39,-37.68 -43.42,-39.2 -45.95,-39.98 -47.52,-40.21 -50.44,-40.15 -52.75,-39.08 -53.7,-37.79 -54.04,-36.11 ; 52.5,-27.85 52.62,-31.89 53.23,-33.3 54.24,-34.76 55.42,-35.6 57.78,-36.22 59.69,-36.44 61.66,-36.39 65.25,-35.38 67.67,-34.65 69.64,-33.75 72.95,-32.57 76.6,-31.16 81.15,-29.48 86.1,-28.07 90.76,-26.78 94.75,-26.16 97.95,-25.66 99.8,-24.76 100.42,-23.58 100.42,-22.18 99.97,-21.16 99.3,-20.43 98.23,-19.98 96.38,-19.93 93.68,-20.15 91.55,-20.32 87,-20.83 82.84,-21.73 79.64,-22.68 77.11,-23.47 74.24,-24.48 72.78,-25.1 71.43,-25.32 70.42,-25.15 69.81,-24.7 69.58,-24.2 69.52,-23.19 69.75,-21.89 70.7,-20.6 72.05,-19.48 73.79,-18.19 75.2,-17.29 76.77,-16.39 78.74,-15.55 80.82,-14.98 85.03,-14.42 89.36,-14.2 92.72,-14.09 97.39,-14.09 99.13,-14.03 101.04,-13.13 101.99,-12.51 102.22,-11.33 101.99,-10.1 101.49,-9.2 100.87,-8.64 99.69,-8.13 97.72,-7.85 93.12,-7.91 89.52,-8.07 86.66,-8.24 84.58,-8.64 82.56,-9.09 81.1,-9.09 80.42,-8.69 80.14,-7.74 80.48,-7.29 81.66,-6.61 83.85,-5.71 86.27,-4.99 90.39,-3.97 96.01,-3.3 101.69,-2.79 105.34,-2.4 108.88,-2.18 111.26,-2.18 112.16,-2.31 113.45,-2.08 114.35,-1.8 114.92,-1.13 115.2,-0.23 115.2,0.84 114.97,1.85 114.52,2.8 114.13,3.48 112.62,3.89 112.47,3.89 109.33,3.95 106.24,3.83 101.35,3.67 94.44,2.99 88.48,2.49 81.52,1.42 74.5,0.52 69.78,-0.6 64.89,-1.17 64.33,-1.1 63.46,-1.13 62.67,-1.35 61.83,-2.03 61.38,-2.7 60.98,-3.71 60.76,-4.78 60.87,-5.62 61.1,-6.52 61.37,-6.92 61.6,-7.01 62.73,-8.13 62.95,-9.37 62.84,-10.49 61.15,-12.74 59.47,-14.42 57.95,-16.05 55.87,-18.19 54.41,-20.6 53.51,-23.13 52.67,-25.55 52.5,-27.85 ; 89,12.97 cw(c94.43,18.14) 89.25,23.57 108.71,42.12 138.28,42.12 97.9,3.63 89,12.97 ; 109.47,-25.88 109.75,-27.74 110.76,-29.03 112.22,-30.1 114.24,-30.77 117.05,-30.94 120.31,-30.15 122.44,-29.31 123.96,-27.79 124.63,-26.28 124.92,-24.37 124.8,-22.68 124.69,-20.77 125.36,-18.69 126.32,-16.95 127.16,-15.83 127.84,-15.27 128.9,-14.76 130.31,-14.48 131.66,-14.7 132.61,-15.32 134.13,-16.39 136.12,-18.13 138.93,-20.15 142.19,-22.12 145.56,-24.14 148.59,-25.88 151.18,-26.5 154.32,-26.39 156.51,-25.49 158.65,-24.03 161.96,-21.33 165.31,-18.86 168.23,-17.12 171.15,-15.71 174.18,-14.76 175.53,-13.86 176.49,-12.12 176.15,-10.27 175.64,-9.37 174.63,-8.47 173.23,-8.02 171.77,-8.07 170.76,-8.47 168.56,-9.14 166.37,-10.04 163.9,-11.22 161.99,-12.18 160.19,-13.13 158.28,-14.42 156.77,-15.49 155.03,-16.05 153.73,-16.05 152.84,-15.71 151.49,-15.15 150.42,-14.65 148.57,-13.75 146.88,-12.51 145.76,-11.5 145.25,-10.71 144.91,-10.15 145.03,-9.76 145.53,-9.25 146.6,-8.86 148.68,-8.64 150.7,-8.19 154.07,-7.34 157.89,-6.05 161.54,-4.76 165.53,-3.3 168.45,-2.06 171.15,-0.32 172.58,0.8 173.93,2.71 174.1,4.34 173.71,6.08 173.14,7.15 171.63,8.27 170.17,8.89 168.59,9.45 166.57,9.62 165.36,9.62 160.11,9.54 153.43,8.93 146.51,8.08 138.09,6.9 129.1,5.39 122.92,3.98 118.32,2.71 117.67,2.47 116.83,1.9 116.15,1.06 115.7,0.22 115.48,-0.79 115.53,-1.75 115.87,-2.65 116.26,-3.32 116.67,-3.84 117.25,-4.65 117.58,-6.05 117.53,-7.34 116.8,-8.97 115.79,-11.05 114.78,-12.51 113.54,-13.97 112.19,-15.6 111.35,-17.12 110.39,-19.25 109.72,-21.5 109.47,-23.3 109.47,-25.88 ; 137.95,-3.47 138.68,-2.29 140.14,-0.83 141.82,0.58 143.73,1.98 145.93,2.82 148.68,3.16 151.15,3.1 152.27,2.26 152.61,1.2 152.22,0.24 151.71,-0.21 151.04,-0.55 149.63,-0.71 147.89,-0.83 146.26,-1.11 144.52,-1.78 142.27,-2.79 140.93,-3.52 139.86,-4.14 139.01,-4.65 138,-4.03 137.95,-3.47
TopSolder:
  drawing of 231 lines, arcs and shapes, not listed

## BANKS LOGO TOP .700 [mil]
TopLayer:
  lines w10: -285.68,-16.23 -273.93,-16.23 ; -236.18,61.7 cw(c-256.28,55.63) -235.28,55.62 ; -236.17,61.7 ccw(c-281.58,47.97) -267.84,93.37 ccw(c-273.93,73.27) -273.92,94.27 -285.68,94.27 -285.68,0.27 cw(c-293.18,0.27) -293.18,-7.23 -293.26,-7.23 cw(c-293.26,0.27) -300.76,0.27 -300.76,121.65 -351.16,121.65 -351.16,-16.23 -273.93,-16.23 ; -88.1,-14.76 -88.1,94.27 -7.1,94.27 cw(c-7.1,58.27) 28.9,58.27 28.9,-16.23 17.13,-16.23 ; -37.7,-13.1 -37.7,77.77 cw(c-30.2,77.77) -30.2,85.27 -29,85.27 cw(c-29,77.77) -21.5,77.77 -21.5,-16.23 -11.63,-16.23 ; 46.36,-12.06 46.36,121.65 96.76,121.65 96.76,60.34 132.37,94.27 181.51,94.27 145.9,60.34 148.36,60.34 cw(c148.36,45.34) 163.36,45.34 163.36,13.1 ; 52.76,-16.23 71.8,-16.23 ; 96.76,5.47 96.76,55.38 100.96,55.38 cw(c100.96,43.38) 112.96,43.38 112.96,12.85 ; 112.96,-4.85 112.96,-16.23 120.38,-16.23 ; 163.36,-8.13 163.36,-2.71 ; 193.62,-5.67 204.49,4.7 ; 200.93,-16.23 227.37,-16.23 ; 218.37,17.92 263.3,60.74 281.1,42.06 cw(c270.24,31.71) 283.68,25.06 ; -273.92,-16.23 ccw(c-273.93,4.77) -267.84,-15.33 ccw(c-281.58,30.07) -236.17,16.33 ccw(c-256.27,22.41) -235.28,22.42 ; -235.28,22.42 -235.28,55.62 ; -235.28,22.42 -235.28,55.62 ; -257.1,-93.16 -257.1,-88.21 -255.98,-82.14 -253.51,-76.75 -250.59,-71.58 -247.21,-67.31 -241.6,-61.02 -236.88,-55.63 -233.28,-52.48 -231.48,-51.13 -231.03,-48.66 -235.98,-46.87 -238.9,-45.07 -240.25,-43.94 -240.92,-41.02 -240.02,-38.77 -237.1,-36.53 -232.38,-34.51 -218.23,-30.91 -201.15,-27.76 -177.55,-23.94 -157.56,-22.15 -138.9,-21.92 -133.74,-22.6 -130.81,-23.72 -128.12,-25.74 -125.2,-28.44 -124.3,-31.81 -124.3,-35.85 -126.1,-39.67 -129.24,-43.27 -134.19,-46.64 -141.38,-50.46 -155.08,-55.4 -171.04,-60.35 -186.54,-64.39 -200.7,-67.09 -211.71,-67.99 -215.08,-68.89 -218,-72.03 -221.82,-78.77 -223.4,-85.52 -224.29,-90.23 -224.74,-95.4 -226.76,-98.55 -231.03,-100.57 -235.08,-101.69 -240.02,-101.92 -245.64,-101.92 -250.36,-100.8 -254.18,-98.77 -255.98,-96.53 -257.1,-93.16 ; -239.56,-16.23 -192.9,94.27 -140.63,94.27 -93.98,-16.23 -142.83,-16.23 -159.12,22.36 -159.12,77.77 ccw(c-166.62,77.77) -166.62,85.27 -166.92,85.27 ccw(c-166.92,77.77) -174.42,77.77 -174.42,22.36 -190.71,-16.23 -239.56,-16.23 ; -200.21,-50.3 -200.09,-49.18 -199.61,-48.19 -199.52,-47.93 -197.1,-45.69 -192.83,-42.37 -187.33,-39.39 -183.62,-37.76 -178.34,-36.36 -173.4,-35.8 -168.96,-36.02 -166.15,-36.81 -165.19,-38.1 -165.08,-39.45 -165.48,-40.8 -167.27,-42.26 -169.41,-43.21 -173,-44.06 -175.98,-44.73 -180.53,-45.85 -186.37,-47.82 -192.05,-49.51 -193.36,-50.12 -195.15,-50.53 -196.72,-50.87 -198.3,-51.2 -199.87,-50.98 -200.21,-50.3 ; -140.37,-68.61 -140.03,-64.34 -138,-59.17 -135.31,-55.46 -132.72,-51.98 -128.34,-47.26 -123.06,-42.31 -114.19,-34.67 -105.2,-26.81 -98.34,-21.53 -91.6,-16.59 -85.23,-13.27 -79.16,-10.91 -72.87,-9.9 -66.24,-9.45 -55.56,-9.45 -48.71,-9.68 -42.08,-11.02 -35.68,-14.06 -31.41,-17.54 -28.6,-21.7 -27.14,-26.42 -26.69,-30.91 -27.25,-36.08 -28.6,-40.57 -31.3,-45.07 -36.93,-51.11 -42.77,-57.06 -50.19,-63.24 -58.39,-68.75 -68.7,-75.88 -80.16,-82.51 -91.39,-87.06 -97.18,-88.75 -105.83,-89.53 -112.91,-89.53 -116.32,-89.17 -124.75,-86.36 -129.69,-83.55 -133.62,-80.4 -136.66,-77.03 -139.58,-73.1 -140.37,-68.61 ; -109.2,-62.17 -108.53,-58.24 -106.17,-53.97 -103.13,-49.59 -99.76,-45.43 -94.48,-40.94 -87.85,-36.33 -82.8,-33.19 -75.83,-29.48 -70.89,-27.34 -66.06,-26.22 -62.69,-26 -59.2,-26.11 -55.83,-27.57 -53.81,-29.7 -52.57,-32.29 -52.35,-36.11 -53.13,-39.59 -55.16,-43.07 -57.74,-46.44 -62.57,-51.16 -68.86,-56.89 -75.16,-61.16 -81.9,-65.32 -87.97,-68.35 -93.02,-69.93 -96.17,-70.38 -102.01,-70.26 -106.62,-68.13 -108.53,-65.54 -109.2,-62.17 ; -24.2,-62.17 -24.09,-51.5 -23.64,-44.53 -21.84,-37.12 -18.81,-27.57 -16.11,-22.06 -11.62,-16.22 -7.24,-11.61 -2.07,-6.89 2.09,-4.09 7.03,-2.85 12.2,-2.62 16.92,-2.85 19.61,-3.86 21.41,-6.45 21.64,-9.59 20.4,-12.74 18.49,-14.76 15.68,-17.79 14.11,-20.27 12.87,-22.51 12.2,-24.76 11.75,-27.12 10.85,-29.82 10.63,-32.06 10.96,-35.21 13.44,-35.88 15.46,-34.31 16.81,-32.62 18.49,-29.93 20.74,-26.67 23.66,-23.52 27.93,-19.59 30.85,-16.56 34,-14.42 38.27,-12.74 42.09,-11.95 45.57,-11.95 48.83,-12.4 51.3,-13.86 52.76,-16.22 53.66,-19.03 53.21,-21.95 51.75,-25.66 50.74,-28.13 50.29,-30.94 50.17,-32.96 51.07,-34.42 53.43,-34.65 56.47,-33.07 58.6,-30.38 66.3,-21.95 74.95,-12.96 82.36,-6 89.78,0.18 97.2,5.8 103.04,10.07 107.42,12.43 111.24,13.11 115.06,12.54 117.31,11.64 119.78,8.95 120.34,6.48 120.34,2.43 118.54,-1.05 114.39,-3.75 106.97,-9.48 100.12,-15.43 93.26,-22.51 86.86,-29.36 80.34,-36.67 72.31,-44.98 66.13,-51.72 61.41,-56.67 57.81,-60.6 54.45,-64.19 51.19,-67.34 48.27,-69.7 44.56,-70.82 41.19,-70.71 36.13,-70.04 33.55,-68.69 31.19,-65.88 29.61,-63.63 28.27,-60.71 26.92,-56.11 26.8,-52.51 26.8,-47.68 26.24,-46.22 24.89,-46.11 23.21,-47.12 19.84,-51.16 16.13,-56.22 11.19,-61.5 6.58,-67 2.31,-70.94 -0.61,-74.08 -2.07,-75.77 -3.98,-77.12 -6.9,-77.68 -10.83,-77.68 -12.97,-77 -17.57,-74.31 -20.95,-71.27 -23.3,-67.34 -24.2,-62.17 ; 103.88,-45.66 104.22,-41.05 105.9,-36.22 107.7,-31.16 110.62,-26.33 114.78,-22.06 117.81,-18.8 121.18,-15.43 124.55,-10.94 124.78,-8.69 124.33,-6.22 122.08,-3.97 121.62,-3.81 121.07,-3 120.62,-1.21 120.4,0.48 120.85,2.61 121.63,4.64 122.53,5.98 124.22,7.33 125.79,7.78 127.53,7.84 128.66,7.71 138.43,8.84 147.87,11.08 161.91,12.88 175.84,15.02 187.75,16.03 201.57,17.37 211.35,17.71 217.53,17.94 223.82,17.82 224.12,17.82 227.13,17 227.92,15.65 228.82,13.74 229.27,11.71 229.27,9.58 228.71,7.78 227.58,6.43 225.79,5.87 223.2,5.42 221.4,5.69 216.63,5.69 209.55,5.24 202.25,4.45 190.9,3.44 179.66,2.09 171.41,0.07 166.57,-1.39 162.19,-3.19 159.83,-4.54 159.16,-5.43 159.72,-7.34 161.07,-8.13 163.99,-8.13 168.03,-7.23 172.19,-6.45 177.92,-6.11 185.11,-5.77 194.33,-5.66 198.26,-6.22 200.62,-7.23 201.85,-8.36 202.87,-10.15 203.31,-12.62 202.87,-14.98 200.96,-16.22 197.13,-18.02 193.65,-18.13 184.33,-18.13 177.59,-18.36 168.93,-18.8 160.51,-19.93 156.35,-21.05 152.42,-22.74 149.27,-24.53 146.46,-26.33 142.98,-28.92 140.28,-31.16 138.37,-33.75 137.92,-36.33 138.04,-38.35 138.49,-39.37 139.72,-40.26 141.74,-40.6 144.44,-40.15 147.36,-38.92 153.09,-36.89 158.15,-35.32 164.55,-33.41 172.87,-31.61 181.97,-30.6 186.24,-30.26 191.63,-29.82 195.34,-29.93 197.47,-30.83 198.82,-32.29 199.72,-34.31 199.72,-37.12 198.48,-39.48 194.78,-41.27 188.37,-42.29 180.39,-43.52 171.07,-46.11 161.18,-48.91 152.08,-52.29 144.78,-55.09 138.15,-57.45 134.22,-59.25 129.38,-60.71 122.19,-62.73 118.26,-62.85 114.44,-62.4 109.72,-61.16 107.36,-59.48 105.34,-56.55 104.11,-53.75 103.88,-45.66 ; 176.87,35.98 cw(c187.73,46.33) 177.38,57.19 216.3,94.27 275.44,94.27 194.67,17.3 176.87,35.98 ; 217.81,-41.72 217.81,-36.56 218.31,-32.96 219.66,-28.47 221.57,-24.2 223.26,-21.16 225.95,-17.91 228.43,-14.98 230.45,-12.06 232.47,-7.91 233.93,-4.65 234.04,-2.06 233.37,0.75 232.21,2.37 231.4,3.4 230.62,4.75 229.94,6.55 229.83,8.46 230.28,10.48 231.18,12.16 232.53,13.85 234.21,14.97 235.52,15.46 244.72,18.01 257.08,20.82 275.05,23.85 291.91,26.21 305.73,27.89 319.1,29.13 329.59,29.28 332.02,29.28 336.06,28.95 339.21,27.82 342.13,26.59 345.16,24.34 346.29,22.2 347.07,18.72 346.74,15.46 344.04,11.64 341.17,9.4 335.78,5.91 329.94,3.44 321.96,0.52 314.66,-2.06 307.02,-4.65 300.28,-6.33 296.23,-7.23 292.07,-7.68 289.94,-8.47 288.93,-9.48 288.7,-10.27 289.38,-11.39 290.39,-12.96 292.64,-14.98 296.01,-17.46 299.71,-19.25 301.85,-20.27 304.55,-21.39 306.34,-22.06 308.93,-22.06 312.41,-20.94 315.44,-18.8 319.26,-16.22 322.86,-14.31 326.68,-12.4 331.62,-10.04 336.01,-8.24 340.39,-6.89 342.41,-6.11 345.33,-6 348.14,-6.89 350.16,-8.69 351.17,-10.49 351.85,-14.2 349.94,-17.68 347.24,-19.48 341.17,-21.39 335.33,-24.2 329.49,-27.68 322.8,-32.62 316.18,-38.02 311.91,-40.94 307.52,-42.74 301.23,-42.96 296.06,-41.72 290,-38.24 283.25,-34.2 276.74,-30.26 271.12,-26.22 267.13,-22.74 264.1,-20.6 262.19,-19.37 259.49,-18.92 256.68,-19.48 254.55,-20.49 253.2,-21.61 251.51,-23.86 249.6,-27.34 248.26,-31.5 248.48,-35.32 248.71,-38.69 248.14,-42.51 246.8,-45.55 243.76,-48.58 239.49,-50.26 232.98,-51.84 227.36,-51.5 223.31,-50.15 220.39,-48.02 218.37,-45.43 217.81,-41.72 ; 274.77,3.1 276.23,5.46 279.15,8.39 282.52,11.2 286.35,14 290.73,15.69 296.23,16.36 301.18,16.25 303.42,14.56 304.1,12.43 303.31,10.52 302.3,9.62 300.95,8.95 298.14,8.61 294.66,8.39 291.4,7.82 287.92,6.48 283.42,4.45 280.73,2.99 278.59,1.76 276.91,0.75 274.88,1.98 274.77,3.1
TopSolder:
  drawing of 583 lines, arcs and shapes, not listed

## C&K_7101_TOGGLE [mil]
pads (3):
  round 100 hole 62: COM(0,0) NC(0,185) NO(0,-185)
TopOverlay:
  lines w10: -135,-235 ccw(c-120,-235) -120,-250 120,-250 ccw(c120,-235) 135,-235 135,235 ccw(c120,235) 120,250 -120,250 ccw(c-120,235) -135,235 -135,-235

## C&K_7201_TOGGLE [mil]
pads (6):
  round 100 hole 62: COM1(-95,0) COM2(95,0) NC1(-95,185) NC2(95,185) NO1(-95,-185) NO2(95,-185)
TopOverlay:
  lines w10: -225,-235 ccw(c-210,-235) -210,-250 210,-250 ccw(c210,-235) 225,-235 225,235 ccw(c210,235) 210,250 -210,250 ccw(c-210,235) -225,235 -225,-235

## C&K_7301_TOGGLE [mil]
pads (9):
  round 100 hole 62: COM1(-190,0) COM2(0,0) COM3(190,0) NC1(-190,185) NC2(0,185) NC3(190,185) NO1(-190,-185) NO2(0,-185) NO3(190,-185)
TopOverlay:
  lines w10: -325,-235 ccw(c-310,-235) -310,-250 310,-250 ccw(c310,-235) 325,-235 325,235 ccw(c310,235) 310,250 -310,250 ccw(c-310,235) -325,235 -325,-235

## C&K_7401_TOGGLE [mil]
pads (12):
  round 100 hole 62: COM1(-285,0) COM2(-95,0) COM3(95,0) COM4(285,0) NC1(-285,185) NC2(-95,185) NC3(95,185) NC4(285,185) NO1(-285,-185) NO2(-95,-185) NO3(95,-185) NO4(285,-185)
TopOverlay:
  lines w10: -425,-235 ccw(c-410,-235) -410,-250 410,-250 ccw(c410,-235) 425,-235 425,235 ccw(c410,235) 410,250 -410,250 ccw(c-410,235) -425,235 -425,-235

## C&K_CKC2010_ROCK [mil]
pads (5):
  round 150 hole 62: COM(275,0) NO(550,0) ""(-65,480) ""(615,480)
  rect 150x150 hole 62: NC(0,0)
TopOverlay:
  lines w10: -116,400 -90,325 ; -75,385 -55,325 ; -55,385 -55,325 ; -50,190 -50,115 0,115 0,190 ; -15,95 -15,115 ; -15,100 15,100 ; 0,165 15,165 ; 15,95 15,190 ; 260,95 260,190 ; 260,100 290,100 ; 260,165 290,165 ; 290,95 290,190 ; 535,95 535,190 ; 535,100 565,100 ; 535,165 550,165 ; 550,190 550,115 600,115 600,190 ; 565,95 565,115 ; 605,385 605,325 ; 625,385 605,325 ; 666,400 640,325 ; -90,325 -90,210 ccw(c-70,210) -70,190 620,190 ccw(c620,210) 640,210 640,325 ; -90,325 -55,325 ; 605,325 640,325
Mechanical3:
  circle w10: c275,595 r43
  lines w10: -90,640 -95,635 -140,490 -140,470 -90,325 ; -85,550 -70,370 ; -85,640 -65,620 -105,485 -105,475 -55,325 ; -65,640 -65,530 ; -50,190 -50,115 0,115 0,190 ; -30,720 -25,725 -3,725 19,726 41,728 61,730 74,731 88,733 106,736 121,739 137,742 152,745 167,748 184,752 202,757 218,762 236,767 248,771 263,776 276,781 290,787 305,793 316,798 328,803 341,809 351,814 362,820 373,826 384,832 395,838 404,843 413,848 422,853 433,858 440,860 447,860 452,857 457,852 462,846 471,833 479,821 487,809 494,798 502,784 507,775 512,765 516,756 520,747 524,738 529,727 532,720 ; -15,100 15,100 ; -15,115 -15,-25 15,-25 15,190 ; 0,165 15,165 ; 20,530 -65,530 ; 20,640 20,480 -55,480 ; 234,584 316,607 ; 260,100 290,100 ; 260,165 290,165 ; 260,190 260,-25 290,-25 290,190 ; 530,530 615,530 ; 530,640 530,480 605,480 ; 530,720 530,725 ; 535,100 565,100 ; 535,165 550,165 ; 535,190 535,-25 565,-25 565,115 ; 550,190 550,115 600,115 600,190 ; 615,640 615,530 ; 620,370 635,550 ; 635,640 615,620 655,485 655,475 605,325 ; 640,640 645,635 690,490 690,470 640,325 ; -90,325 -55,325 ; -90,325 -90,210 ccw(c-70,210) -70,190 620,190 ccw(c620,210) 640,210 640,325 ; -65,530 -55,480 ; -55,325 -55,480 ; 605,325 640,325 ; 605,325 605,480 ; 605,480 615,530 ; -135,640 685,640 685,700 ccw(c665,700) 665,720 -115,720 ccw(c-115,700) -135,700 -135,640